# EAGLE library part 649016227222 (library Wurth_Elektronik_Electromechanic_Wire_to_Board_Connectors_rev15c)
WR-MPC4-4.20mm Male Dual Row Angled Header with Mounting Pegs,16 pins=>Code : Con_WTB_MPC4_2_PCB_649016227222 <http://katalog.we-online.de/media/thumbs2/eican/thb_Con_WTB_MPC4_2_PCB_6490xx227222_pf2.jpg> Details see: http://katalog.we-online.de/en/em/649_0xx_227_222 Created 2014-06-06, Karrer Zheng 2014 (C) Würth Elektronik
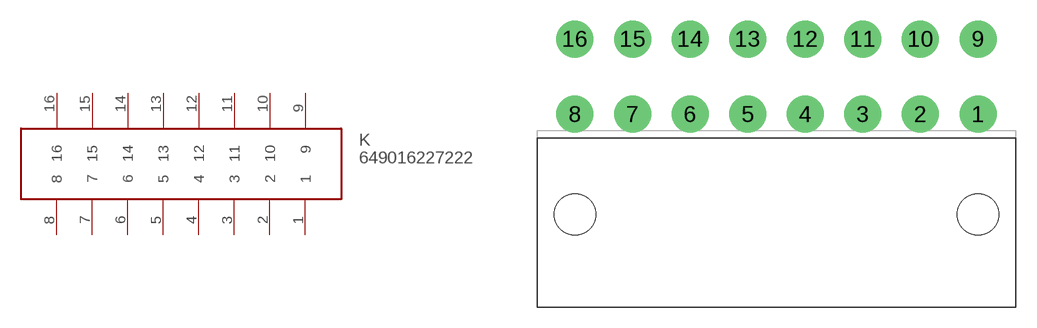
[diagram p303: symbol with the pads of 649016227222; footprint 649016227222]

Designator prefix K

## 649016227222  [649016227222]
1  1
2  2
3  3
4  4
5  5
6  6
7  7
8  8
9  9
10  10
11  11
12  12
13  13
14  14
15  15
16  16

## Footprint 649016227222 (pad centres in mm)
WR-MPC4-4.20mm Male Dual Row Angled Header with Mounting Pegs,16 pins
drill 1.8: 1 13.905,-2.75; 2 9.705,-2.75; 3 5.505,-2.75; 4 1.305,-2.75; 5 -2.895,-2.75; 6 -7.095,-2.75; 7 -11.295,-2.75; 8 -15.495,-2.75; 9 13.905,2.75; 10 9.705,2.75; 11 5.505,2.75; 12 1.305,2.75; 13 -2.895,2.75; 14 -7.095,2.75; 15 -11.295,2.75; 16 -15.495,2.75
hole 3 at -15.495,-10.05
hole 3 at 13.905,-10.05